# Altium schematic symbol library WS-DITV.SchLib: 44 symbols
Pins are listed as number, name and electrical type; pins without a type are passive.

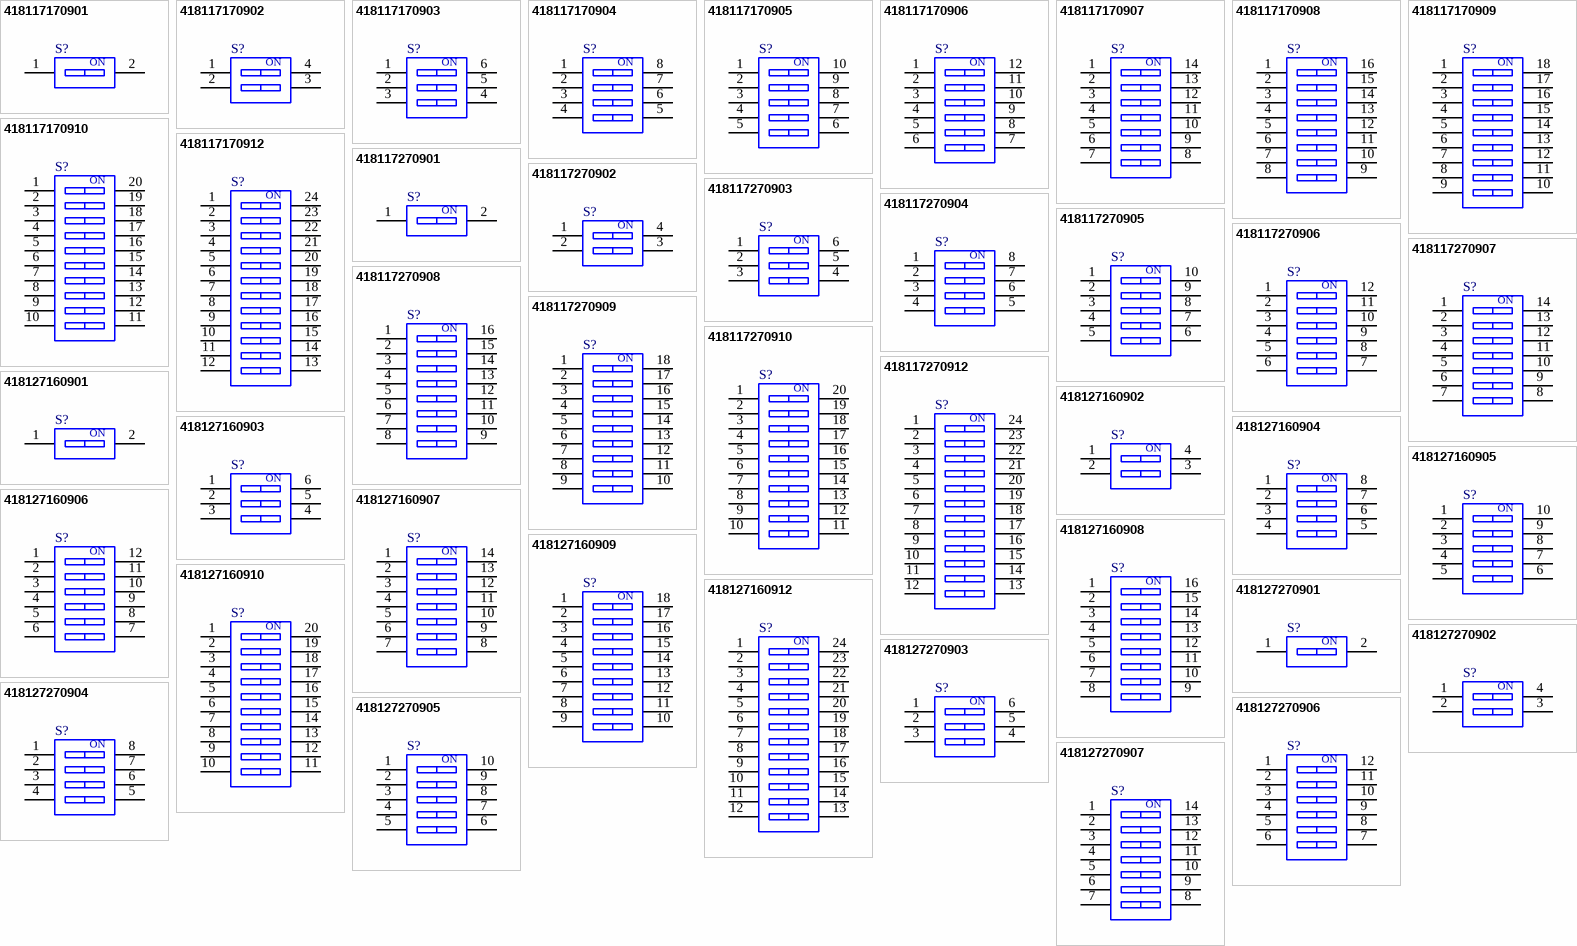
[diagram p0: symbols 418117170901 to 418127270907]

## 418117170901
designator S?
WS-DITV Compact THT Dip Switch, Flat Actuator, pitch 2.54mm, 1p; Part Number: 418117170901; Operation Force: 800g; Pole Number: 1; Actuator Type: Flat Type; Circuit: SPST-NO; Rated Current Switching: 25mA; Rated Current Non-Switching: 100mA; Rated Voltage Non-Switching: 50VDC; Rated Voltage Switching: 24VDC; ComponentLink1Description: Manufacturer; ComponentLink1URL: http://www.we-online.de; ComponentLink2Description: Datasheet; ComponentLink2URL: https://katalog.we-online.com/em/datasheet/418117170901.pdf; Pitch: 2.54mm; Contact Material: Copper Alloy; Mounting Technology: THT; Operating Temperature: -40 to +85degC; Contact Plating: Gold; Packaging: Tube; Publisher: Wurth Elektronik; Published Date: September 2019
footprint 418117170901
pins: 1, 2
text: ON

## 418117170902
designator S?
WS-DITV Compact THT Dip Switch, Flat Actuator, pitch 2.54mm, 2p; Part Number: 418117170902; Operation Force: 800g; Pole Number: 2; Actuator Type: Flat Type; Circuit: SPST-NO; Rated Current Switching: 25mA; Rated Current Non-Switching: 100mA; Rated Voltage Non-Switching: 50VDC; Rated Voltage Switching: 24VDC; ComponentLink1Description: Manufacturer; ComponentLink1URL: http://www.we-online.de; ComponentLink2Description: Datasheet; ComponentLink2URL: https://katalog.we-online.com/em/datasheet/418117170902.pdf; Pitch: 2.54mm; Contact Material: Copper Alloy; Mounting Technology: THT; Operating Temperature: -40 to +85degC; Contact Plating: Gold; Packaging: Tube; Publisher: Wurth Elektronik; Published Date: September 2019
footprint 418117170902
pins: 1, 2, 3, 4
text: ON

## 418117170903
designator S?
WS-DITV Compact THT Dip Switch, Flat Actuator, pitch 2.54mm, 3p; Part Number: 418117170903; Operation Force: 800g; Pole Number: 3; Actuator Type: Flat Type; Circuit: SPST-NO; Rated Current Switching: 25mA; Rated Current Non-Switching: 100mA; Rated Voltage Non-Switching: 50VDC; Rated Voltage Switching: 24VDC; ComponentLink1Description: Manufacturer; ComponentLink1URL: http://www.we-online.de; ComponentLink2Description: Datasheet; ComponentLink2URL: https://katalog.we-online.com/em/datasheet/418117170903.pdf; Pitch: 2.54mm; Contact Material: Copper Alloy; Mounting Technology: THT; Operating Temperature: -40 to +85degC; Contact Plating: Gold; Packaging: Tube; Publisher: Wurth Elektronik; Published Date: September 2019
footprint 418117170903
pins: 1, 2, 3, 4, 5, 6
text: ON

## 418117170904
designator S?
WS-DITV Compact THT Dip Switch, Flat Actuator, pitch 2.54mm, 4p; Part Number: 418117170904; Operation Force: 800g; Pole Number: 4; Actuator Type: Flat Type; Circuit: SPST-NO; Rated Current Switching: 25mA; Rated Current Non-Switching: 100mA; Rated Voltage Non-Switching: 50VDC; Rated Voltage Switching: 24VDC; ComponentLink1Description: Manufacturer; ComponentLink1URL: http://www.we-online.de; ComponentLink2Description: Datasheet; ComponentLink2URL: https://katalog.we-online.com/em/datasheet/418117170904.pdf; Pitch: 2.54mm; Contact Material: Copper Alloy; Mounting Technology: THT; Operating Temperature: -40 to +85degC; Contact Plating: Gold; Packaging: Tube; Publisher: Wurth Elektronik; Published Date: September 2019
footprint 418117170904
pins: 1, 2, 3, 4, 5, 6, 7, 8
text: ON

## 418117170905
designator S?
WS-DITV Compact THT Dip Switch, Flat Actuator, pitch 2.54mm, 5p; Part Number: 418117170905; Operation Force: 800g; Pole Number: 5; Actuator Type: Flat Type; Circuit: SPST-NO; Rated Current Switching: 25mA; Rated Current Non-Switching: 100mA; Rated Voltage Non-Switching: 50VDC; Rated Voltage Switching: 24VDC; ComponentLink1Description: Manufacturer; ComponentLink1URL: http://www.we-online.de; ComponentLink2Description: Datasheet; ComponentLink2URL: https://katalog.we-online.com/em/datasheet/418117170905.pdf; Pitch: 2.54mm; Contact Material: Copper Alloy; Mounting Technology: THT; Operating Temperature: -40 to +85degC; Contact Plating: Gold; Packaging: Tube; Publisher: Wurth Elektronik; Published Date: September 2019
footprint 418117170905
pins: 1, 2, 3, 4, 5, 6, 7, 8, 9, 10
text: ON

## 418117170906
designator S?
WS-DITV Compact THT Dip Switch, Flat Actuator, pitch 2.54mm, 6p; Part Number: 418117170906; Operation Force: 800g; Pole Number: 6; Actuator Type: Flat Type; Circuit: SPST-NO; Rated Current Switching: 25mA; Rated Current Non-Switching: 100mA; Rated Voltage Non-Switching: 50VDC; Rated Voltage Switching: 24VDC; ComponentLink1Description: Manufacturer; ComponentLink1URL: http://www.we-online.de; ComponentLink2Description: Datasheet; ComponentLink2URL: https://katalog.we-online.com/em/datasheet/418117170906.pdf; Pitch: 2.54mm; Contact Material: Copper Alloy; Mounting Technology: THT; Operating Temperature: -40 to +85degC; Contact Plating: Gold; Packaging: Tube; Publisher: Wurth Elektronik; Published Date: September 2019
footprint 418117170906
pins: 1, 2, 3, 4, 5, 6, 7, 8, 9, 10, 11, 12
text: ON

## 418117170907
designator S?
WS-DITV Compact THT Dip Switch, Flat Actuator, pitch 2.54mm, 7p; Part Number: 418117170907; Operation Force: 800g; Pole Number: 7; Actuator Type: Flat Type; Circuit: SPST-NO; Rated Current Switching: 25mA; Rated Current Non-Switching: 100mA; Rated Voltage Non-Switching: 50VDC; Rated Voltage Switching: 24VDC; ComponentLink1Description: Manufacturer; ComponentLink1URL: http://www.we-online.de; ComponentLink2Description: Datasheet; ComponentLink2URL: https://katalog.we-online.com/em/datasheet/418117170907.pdf; Pitch: 2.54mm; Contact Material: Copper Alloy; Mounting Technology: THT; Operating Temperature: -40 to +85degC; Contact Plating: Gold; Packaging: Tube; Publisher: Wurth Elektronik; Published Date: September 2019
footprint 418117170907
pins: 1, 2, 3, 4, 5, 6, 7, 8, 9, 10, 11, 12, 13, 14
text: ON

## 418117170908
designator S?
WS-DITV Compact THT Dip Switch, Flat Actuator, pitch 2.54mm, 8p; Part Number: 418117170908; Operation Force: 800g; Pole Number: 8; Actuator Type: Flat Type; Circuit: SPST-NO; Rated Current Switching: 25mA; Rated Current Non-Switching: 100mA; Rated Voltage Non-Switching: 50VDC; Rated Voltage Switching: 24VDC; ComponentLink1Description: Manufacturer; ComponentLink1URL: http://www.we-online.de; ComponentLink2Description: Datasheet; ComponentLink2URL: https://katalog.we-online.com/em/datasheet/418117170908.pdf; Pitch: 2.54mm; Contact Material: Copper Alloy; Mounting Technology: THT; Operating Temperature: -40 to +85degC; Contact Plating: Gold; Packaging: Tube; Publisher: Wurth Elektronik; Published Date: September 2019
footprint 418117170908
pins: 1, 2, 3, 4, 5, 6, 7, 8, 9, 10, 11, 12, 13, 14, 15, 16
text: ON

## 418117170909
designator S?
WS-DITV Compact THT Dip Switch, Flat Actuator, pitch 2.54mm, 9p; Part Number: 418117170909; Operation Force: 800g; Pole Number: 9; Actuator Type: Flat Type; Circuit: SPST-NO; Rated Current Switching: 25mA; Rated Current Non-Switching: 100mA; Rated Voltage Non-Switching: 50VDC; Rated Voltage Switching: 24VDC; ComponentLink1Description: Manufacturer; ComponentLink1URL: http://www.we-online.de; ComponentLink2Description: Datasheet; ComponentLink2URL: https://katalog.we-online.com/em/datasheet/418117170909.pdf; Pitch: 2.54mm; Contact Material: Copper Alloy; Mounting Technology: THT; Operating Temperature: -40 to +85degC; Contact Plating: Gold; Packaging: Tube; Publisher: Wurth Elektronik; Published Date: September 2019
footprint 418117170909
pins: 1, 2, 3, 4, 5, 6, 7, 8, 9, 10, 11, 12, 13, 14, 15, 16, 17, 18
text: ON

## 418117170910
designator S?
WS-DITV Compact THT Dip Switch, Flat Actuator, pitch 2.54mm, 10p; Part Number: 418117170910; Operation Force: 800g; Pole Number: 10; Actuator Type: Flat Type; Circuit: SPST-NO; Rated Current Switching: 25mA; Rated Current Non-Switching: 100mA; Rated Voltage Non-Switching: 50VDC; Rated Voltage Switching: 24VDC; ComponentLink1Description: Manufacturer; ComponentLink1URL: http://www.we-online.de; ComponentLink2Description: Datasheet; ComponentLink2URL: https://katalog.we-online.com/em/datasheet/418117170910.pdf; Pitch: 2.54mm; Contact Material: Copper Alloy; Mounting Technology: THT; Operating Temperature: -40 to +85degC; Contact Plating: Gold; Packaging: Tube; Publisher: Wurth Elektronik; Published Date: September 2019
footprint 418117170910
pins: 1, 2, 3, 4, 5, 6, 7, 8, 9, 10, 11, 12, 13, 14, 15, 16, 17, 18, 19, 20
text: ON

## 418117170912
designator S?
WS-DITV Compact THT Dip Switch, Flat Actuator, pitch 2.54mm, 12p; Part Number: 418117170912; Operation Force: 800g; Pole Number: 12; Actuator Type: Flat Type; Circuit: SPST-NO; Rated Current Switching: 25mA; Rated Current Non-Switching: 100mA; Rated Voltage Non-Switching: 50VDC; Rated Voltage Switching: 24VDC; ComponentLink1Description: Manufacturer; ComponentLink1URL: http://www.we-online.de; ComponentLink2Description: Datasheet; ComponentLink2URL: https://katalog.we-online.com/em/datasheet/418117170912.pdf; Pitch: 2.54mm; Contact Material: Copper Alloy; Mounting Technology: THT; Operating Temperature: -40 to +85degC; Contact Plating: Gold; Packaging: Tube; Publisher: Wurth Elektronik; Published Date: September 2019
footprint 418117170912
pins: 1, 2, 3, 4, 5, 6, 7, 8, 9, 10, 11, 12, 13, 14, 15, 16, 17, 18, 19, 20, 21, 22, 23, 24
text: ON

## 418117270901
designator S?
WS-DITV Compact THT Dip Switch, Raised Actuator, pitch 2.54mm, 1p; Part Number: 418117270901; Operation Force: 800g; Pole Number: 1; Actuator Type: Raise Type; Circuit: SPST-NO; Rated Current Switching: 25mA; Rated Current Non-Switching: 100mA; Rated Voltage Non-Switching: 50VDC; Rated Voltage Switching: 24VDC; ComponentLink1Description: Manufacturer; ComponentLink1URL: http://www.we-online.de; ComponentLink2Description: Datasheet; ComponentLink2URL: https://katalog.we-online.com/em/datasheet/418117270901.pdf; Pitch: 2.54mm; Contact Material: Copper Alloy; Mounting Technology: THT; Operating Temperature: -40 to +85degC; Contact Plating: Gold; Packaging: Tube; Publisher: Wurth Elektronik; Published Date: September 2019
footprint 418117270901
pins: 1, 2
text: ON

## 418117270902
designator S?
WS-DITV Compact THT Dip Switch, Raised Actuator, pitch 2.54mm, 2p; Part Number: 418117270902; Operation Force: 800g; Pole Number: 2; Actuator Type: Raise Type; Circuit: SPST-NO; Rated Current Switching: 25mA; Rated Current Non-Switching: 100mA; Rated Voltage Non-Switching: 50VDC; Rated Voltage Switching: 24VDC; ComponentLink1Description: Manufacturer; ComponentLink1URL: http://www.we-online.de; ComponentLink2Description: Datasheet; ComponentLink2URL: https://katalog.we-online.com/em/datasheet/418117270902.pdf; Pitch: 2.54mm; Contact Material: Copper Alloy; Mounting Technology: THT; Operating Temperature: -40 to +85degC; Contact Plating: Gold; Packaging: Tube; Publisher: Wurth Elektronik; Published Date: September 2019
footprint 418117270902
pins: 1, 2, 3, 4
text: ON

## 418117270903
designator S?
WS-DITV Compact THT Dip Switch, Raised Actuator, pitch 2.54mm, 3p; Part Number: 418117270903; Operation Force: 800g; Pole Number: 3; Actuator Type: Raise Type; Circuit: SPST-NO; Rated Current Switching: 25mA; Rated Current Non-Switching: 100mA; Rated Voltage Non-Switching: 50VDC; Rated Voltage Switching: 24VDC; ComponentLink1Description: Manufacturer; ComponentLink1URL: http://www.we-online.de; ComponentLink2Description: Datasheet; ComponentLink2URL: https://katalog.we-online.com/em/datasheet/418117270903.pdf; Pitch: 2.54mm; Contact Material: Copper Alloy; Mounting Technology: THT; Operating Temperature: -40 to +85degC; Contact Plating: Gold; Packaging: Tube; Publisher: Wurth Elektronik; Published Date: September 2019
footprint 418117270903
pins: 1, 2, 3, 4, 5, 6
text: ON

## 418117270904
designator S?
WS-DITV Compact THT Dip Switch, Raised Actuator, pitch 2.54mm, 4p; Part Number: 418117270904; Operation Force: 800g; Pole Number: 4; Actuator Type: Raise Type; Circuit: SPST-NO; Rated Current Switching: 25mA; Rated Current Non-Switching: 100mA; Rated Voltage Non-Switching: 50VDC; Rated Voltage Switching: 24VDC; ComponentLink1Description: Manufacturer; ComponentLink1URL: http://www.we-online.de; ComponentLink2Description: Datasheet; ComponentLink2URL: https://katalog.we-online.com/em/datasheet/418117270904.pdf; Pitch: 2.54mm; Contact Material: Copper Alloy; Mounting Technology: THT; Operating Temperature: -40 to +85degC; Contact Plating: Gold; Packaging: Tube; Publisher: Wurth Elektronik; Published Date: September 2019
footprint 418117270904
pins: 1, 2, 3, 4, 5, 6, 7, 8
text: ON

## 418117270905
designator S?
WS-DITV Compact THT Dip Switch, Raised Actuator, pitch 2.54mm, 5p; Part Number: 418117270905; Operation Force: 800g; Pole Number: 5; Actuator Type: Raise Type; Circuit: SPST-NO; Rated Current Switching: 25mA; Rated Current Non-Switching: 100mA; Rated Voltage Non-Switching: 50VDC; Rated Voltage Switching: 24VDC; ComponentLink1Description: Manufacturer; ComponentLink1URL: http://www.we-online.de; ComponentLink2Description: Datasheet; ComponentLink2URL: https://katalog.we-online.com/em/datasheet/418117270905.pdf; Pitch: 2.54mm; Contact Material: Copper Alloy; Mounting Technology: THT; Operating Temperature: -40 to +85degC; Contact Plating: Gold; Packaging: Tube; Publisher: Wurth Elektronik; Published Date: September 2019
footprint 418117270905
pins: 1, 2, 3, 4, 5, 6, 7, 8, 9, 10
text: ON

## 418117270906
designator S?
WS-DITV Compact THT Dip Switch, Raised Actuator, pitch 2.54mm, 6p; Part Number: 418117270906; Operation Force: 800g; Pole Number: 6; Actuator Type: Raise Type; Circuit: SPST-NO; Rated Current Switching: 25mA; Rated Current Non-Switching: 100mA; Rated Voltage Non-Switching: 50VDC; Rated Voltage Switching: 24VDC; ComponentLink1Description: Manufacturer; ComponentLink1URL: http://www.we-online.de; ComponentLink2Description: Datasheet; ComponentLink2URL: https://katalog.we-online.com/em/datasheet/418117270906.pdf; Pitch: 2.54mm; Contact Material: Copper Alloy; Mounting Technology: THT; Operating Temperature: -40 to +85degC; Contact Plating: Gold; Packaging: Tube; Publisher: Wurth Elektronik; Published Date: September 2019
footprint 418117270906
pins: 1, 2, 3, 4, 5, 6, 7, 8, 9, 10, 11, 12
text: ON

## 418117270907
designator S?
WS-DITV Compact THT Dip Switch, Raised Actuator, pitch 2.54mm, 7p; Part Number: 418117270907; Operation Force: 800g; Pole Number: 7; Actuator Type: Raise Type; Circuit: SPST-NO; Rated Current Switching: 25mA; Rated Current Non-Switching: 100mA; Rated Voltage Non-Switching: 50VDC; Rated Voltage Switching: 24VDC; ComponentLink1Description: Manufacturer; ComponentLink1URL: http://www.we-online.de; ComponentLink2Description: Datasheet; ComponentLink2URL: https://katalog.we-online.com/em/datasheet/418117270907.pdf; Pitch: 2.54mm; Contact Material: Copper Alloy; Mounting Technology: THT; Operating Temperature: -40 to +85degC; Contact Plating: Gold; Packaging: Tube; Publisher: Wurth Elektronik; Published Date: September 2019
footprint 418117270907
pins: 1, 2, 3, 4, 5, 6, 7, 8, 9, 10, 11, 12, 13, 14
text: ON

## 418117270908
designator S?
WS-DITV Compact THT Dip Switch, Raised Actuator, pitch 2.54mm, 8p; Part Number: 418117270908; Operation Force: 800g; Pole Number: 8; Actuator Type: Raise Type; Circuit: SPST-NO; Rated Current Switching: 25mA; Rated Current Non-Switching: 100mA; Rated Voltage Non-Switching: 50VDC; Rated Voltage Switching: 24VDC; ComponentLink1Description: Manufacturer; ComponentLink1URL: http://www.we-online.de; ComponentLink2Description: Datasheet; ComponentLink2URL: https://katalog.we-online.com/em/datasheet/418117270908.pdf; Pitch: 2.54mm; Contact Material: Copper Alloy; Mounting Technology: THT; Operating Temperature: -40 to +85degC; Contact Plating: Gold; Packaging: Tube; Publisher: Wurth Elektronik; Published Date: September 2019
footprint 418117270908
pins: 1, 2, 3, 4, 5, 6, 7, 8, 9, 10, 11, 12, 13, 14, 15, 16
text: ON

## 418117270909
designator S?
WS-DITV Compact THT Dip Switch, Raised Actuator, pitch 2.54mm, 9p; Part Number: 418117270909; Operation Force: 800g; Pole Number: 9; Actuator Type: Raise Type; Circuit: SPST-NO; Rated Current Switching: 25mA; Rated Current Non-Switching: 100mA; Rated Voltage Non-Switching: 50VDC; Rated Voltage Switching: 24VDC; ComponentLink1Description: Manufacturer; ComponentLink1URL: http://www.we-online.de; ComponentLink2Description: Datasheet; ComponentLink2URL: https://katalog.we-online.com/em/datasheet/418117270909.pdf; Pitch: 2.54mm; Contact Material: Copper Alloy; Mounting Technology: THT; Operating Temperature: -40 to +85degC; Contact Plating: Gold; Packaging: Tube; Publisher: Wurth Elektronik; Published Date: September 2019
footprint 418117270909
pins: 1, 2, 3, 4, 5, 6, 7, 8, 9, 10, 11, 12, 13, 14, 15, 16, 17, 18
text: ON

## 418117270910
designator S?
WS-DITV Compact THT Dip Switch, Raised Actuator, pitch 2.54mm, 10p; Part Number: 418117270910; Operation Force: 800g; Pole Number: 10; Actuator Type: Raise Type; Circuit: SPST-NO; Rated Current Switching: 25mA; Rated Current Non-Switching: 100mA; Rated Voltage Non-Switching: 50VDC; Rated Voltage Switching: 24VDC; ComponentLink1Description: Manufacturer; ComponentLink1URL: http://www.we-online.de; ComponentLink2Description: Datasheet; ComponentLink2URL: https://katalog.we-online.com/em/datasheet/418117270910.pdf; Pitch: 2.54mm; Contact Material: Copper Alloy; Mounting Technology: THT; Operating Temperature: -40 to +85degC; Contact Plating: Gold; Packaging: Tube; Publisher: Wurth Elektronik; Published Date: September 2019
footprint 418117270910
pins: 1, 2, 3, 4, 5, 6, 7, 8, 9, 10, 11, 12, 13, 14, 15, 16, 17, 18, 19, 20
text: ON

## 418117270912
designator S?
WS-DITV Compact THT Dip Switch, Raised Actuator, pitch 2.54mm, 12p; Part Number: 418117270912; Operation Force: 800g; Pole Number: 12; Actuator Type: Raise Type; Circuit: SPST-NO; Rated Current Switching: 25mA; Rated Current Non-Switching: 100mA; Rated Voltage Non-Switching: 50VDC; Rated Voltage Switching: 24VDC; ComponentLink1Description: Manufacturer; ComponentLink1URL: http://www.we-online.de; ComponentLink2Description: Datasheet; ComponentLink2URL: https://katalog.we-online.com/em/datasheet/418117270912.pdf; Pitch: 2.54mm; Contact Material: Copper Alloy; Mounting Technology: THT; Operating Temperature: -40 to +85degC; Contact Plating: Gold; Packaging: Tube; Publisher: Wurth Elektronik; Published Date: September 2019
footprint 418117270912
pins: 1, 2, 3, 4, 5, 6, 7, 8, 9, 10, 11, 12, 13, 14, 15, 16, 17, 18, 19, 20, 21, 22, 23, 24
text: ON

## 418127160901
designator S?
WS-DITV Small Compact THT Dip Switch, Flat Actuator with Top Tape, pitch 2.54mm, 1p; Part Number: 418127160901; Operation Force: 600g; Pole Number: 1; Actuator Type: Flat Type; Circuit: SPST-NO; Rated Current Switching: 25mA; Rated Current Non-Switching: 100mA; Rated Voltage Non-Switching: 50VDC; Rated Voltage Switching: 24VDC; ComponentLink1Description: Manufacturer; ComponentLink1URL: http://www.we-online.de; ComponentLink2Description: Datasheet; ComponentLink2URL: https://katalog.we-online.com/em/datasheet/418127160901.pdf; Pitch: 2.54mm; Contact Material: Copper Alloy; Mounting Technology: THT; Operating Temperature: -40 to +85degC; Contact Plating: Gold; Packaging: Tube; Publisher: Wurth Elektronik; Published Date: September 2019
footprint 418127160901
pins: 1, 2
text: ON

## 418127160902
designator S?
WS-DITV Small Compact THT Dip Switch, Flat Actuator with Top Tape, pitch 2.54mm, 2p; Part Number: 418127160902; Operation Force: 600g; Pole Number: 2; Actuator Type: Flat Type; Circuit: SPST-NO; Rated Current Switching: 25mA; Rated Current Non-Switching: 100mA; Rated Voltage Non-Switching: 50VDC; Rated Voltage Switching: 24VDC; ComponentLink1Description: Manufacturer; ComponentLink1URL: http://www.we-online.de; ComponentLink2Description: Datasheet; ComponentLink2URL: https://katalog.we-online.com/em/datasheet/418127160902.pdf; Pitch: 2.54mm; Contact Material: Copper Alloy; Mounting Technology: THT; Operating Temperature: -40 to +85degC; Contact Plating: Gold; Packaging: Tube; Publisher: Wurth Elektronik; Published Date: September 2019
footprint 418127160902
pins: 1, 2, 3, 4
text: ON

## 418127160903
designator S?
WS-DITV Small Compact THT Dip Switch, Flat Actuator with Top Tape, pitch 2.54mm, 3p; Part Number: 418127160903; Operation Force: 600g; Pole Number: 3; Actuator Type: Flat Type; Circuit: SPST-NO; Rated Current Switching: 25mA; Rated Current Non-Switching: 100mA; Rated Voltage Non-Switching: 50VDC; Rated Voltage Switching: 24VDC; ComponentLink1Description: Manufacturer; ComponentLink1URL: http://www.we-online.de; ComponentLink2Description: Datasheet; ComponentLink2URL: https://katalog.we-online.com/em/datasheet/418127160903.pdf; Pitch: 2.54mm; Contact Material: Copper Alloy; Mounting Technology: THT; Operating Temperature: -40 to +85degC; Contact Plating: Gold; Packaging: Tube; Publisher: Wurth Elektronik; Published Date: September 2019
footprint 418127160903
pins: 1, 2, 3, 4, 5, 6
text: ON

## 418127160904
designator S?
WS-DITV Small Compact THT Dip Switch, Flat Actuator with Top Tape, pitch 2.54mm, 4p; Part Number: 418127160904; Operation Force: 600g; Pole Number: 4; Actuator Type: Flat Type; Circuit: SPST-NO; Rated Current Switching: 25mA; Rated Current Non-Switching: 100mA; Rated Voltage Non-Switching: 50VDC; Rated Voltage Switching: 24VDC; ComponentLink1Description: Manufacturer; ComponentLink1URL: http://www.we-online.de; ComponentLink2Description: Datasheet; ComponentLink2URL: https://katalog.we-online.com/em/datasheet/418127160904.pdf; Pitch: 2.54mm; Contact Material: Copper Alloy; Mounting Technology: THT; Operating Temperature: -40 to +85degC; Contact Plating: Gold; Packaging: Tube; Publisher: Wurth Elektronik; Published Date: September 2019
footprint 418127160904
pins: 1, 2, 3, 4, 5, 6, 7, 8
text: ON

## 418127160905
designator S?
WS-DITV Small Compact THT Dip Switch, Flat Actuator with Top Tape, pitch 2.54mm, 5p; Part Number: 418127160905; Operation Force: 600g; Pole Number: 5; Actuator Type: Flat Type; Circuit: SPST-NO; Rated Current Switching: 25mA; Rated Current Non-Switching: 100mA; Rated Voltage Non-Switching: 50VDC; Rated Voltage Switching: 24VDC; ComponentLink1Description: Manufacturer; ComponentLink1URL: http://www.we-online.de; ComponentLink2Description: Datasheet; ComponentLink2URL: https://katalog.we-online.com/em/datasheet/418127160905.pdf; Pitch: 2.54mm; Contact Material: Copper Alloy; Mounting Technology: THT; Operating Temperature: -40 to +85degC; Contact Plating: Gold; Packaging: Tube; Publisher: Wurth Elektronik; Published Date: September 2019
footprint 418127160905
pins: 1, 2, 3, 4, 5, 6, 7, 8, 9, 10
text: ON

## 418127160906
designator S?
WS-DITV Small Compact THT Dip Switch, Flat Actuator with Top Tape, pitch 2.54mm, 6p; Part Number: 418127160906; Operation Force: 600g; Pole Number: 6; Actuator Type: Flat Type; Circuit: SPST-NO; Rated Current Switching: 25mA; Rated Current Non-Switching: 100mA; Rated Voltage Non-Switching: 50VDC; Rated Voltage Switching: 24VDC; ComponentLink1Description: Manufacturer; ComponentLink1URL: http://www.we-online.de; ComponentLink2Description: Datasheet; ComponentLink2URL: https://katalog.we-online.com/em/datasheet/418127160906.pdf; Pitch: 2.54mm; Contact Material: Copper Alloy; Mounting Technology: THT; Operating Temperature: -40 to +85degC; Contact Plating: Gold; Packaging: Tube; Publisher: Wurth Elektronik; Published Date: September 2019
footprint 418127160906
pins: 1, 2, 3, 4, 5, 6, 7, 8, 9, 10, 11, 12
text: ON

## 418127160907
designator S?
WS-DITV Small Compact THT Dip Switch, Flat Actuator with Top Tape, pitch 2.54mm, 7p; Part Number: 418127160907; Operation Force: 600g; Pole Number: 7; Actuator Type: Flat Type; Circuit: SPST-NO; Rated Current Switching: 25mA; Rated Current Non-Switching: 100mA; Rated Voltage Non-Switching: 50VDC; Rated Voltage Switching: 24VDC; ComponentLink1Description: Manufacturer; ComponentLink1URL: http://www.we-online.de; ComponentLink2Description: Datasheet; ComponentLink2URL: https://katalog.we-online.com/em/datasheet/418127160907.pdf; Pitch: 2.54mm; Contact Material: Copper Alloy; Mounting Technology: THT; Operating Temperature: -40 to +85degC; Contact Plating: Gold; Packaging: Tube; Publisher: Wurth Elektronik; Published Date: September 2019
footprint 418127160907
pins: 1, 2, 3, 4, 5, 6, 7, 8, 9, 10, 11, 12, 13, 14
text: ON

## 418127160908
designator S?
WS-DITV Small Compact THT Dip Switch, Flat Actuator with Top Tape, pitch 2.54mm, 8p; Part Number: 418127160908; Operation Force: 600g; Pole Number: 8; Actuator Type: Flat Type; Circuit: SPST-NO; Rated Current Switching: 25mA; Rated Current Non-Switching: 100mA; Rated Voltage Non-Switching: 50VDC; Rated Voltage Switching: 24VDC; ComponentLink1Description: Manufacturer; ComponentLink1URL: http://www.we-online.de; ComponentLink2Description: Datasheet; ComponentLink2URL: https://katalog.we-online.com/em/datasheet/418127160908.pdf; Pitch: 2.54mm; Contact Material: Copper Alloy; Mounting Technology: THT; Operating Temperature: -40 to +85degC; Contact Plating: Gold; Packaging: Tube; Publisher: Wurth Elektronik; Published Date: September 2019
footprint 418127160908
pins: 1, 2, 3, 4, 5, 6, 7, 8, 9, 10, 11, 12, 13, 14, 15, 16
text: ON

## 418127160909
designator S?
WS-DITV Small Compact THT Dip Switch, Flat Actuator with Top Tape, pitch 2.54mm, 9p; Part Number: 418127160909; Operation Force: 600g; Pole Number: 9; Actuator Type: Flat Type; Circuit: SPST-NO; Rated Current Switching: 25mA; Rated Current Non-Switching: 100mA; Rated Voltage Non-Switching: 50VDC; Rated Voltage Switching: 24VDC; ComponentLink1Description: Manufacturer; ComponentLink1URL: http://www.we-online.de; ComponentLink2Description: Datasheet; ComponentLink2URL: https://katalog.we-online.com/em/datasheet/418127160909.pdf; Pitch: 2.54mm; Contact Material: Copper Alloy; Mounting Technology: THT; Operating Temperature: -40 to +85degC; Contact Plating: Gold; Packaging: Tube; Publisher: Wurth Elektronik; Published Date: September 2019
footprint 418127160909
pins: 1, 2, 3, 4, 5, 6, 7, 8, 9, 10, 11, 12, 13, 14, 15, 16, 17, 18
text: ON

## 418127160910
designator S?
WS-DITV Small Compact THT Dip Switch, Flat Actuator with Top Tape, pitch 2.54mm, 10p; Part Number: 418127160910; Operation Force: 600g; Pole Number: 10; Actuator Type: Flat Type; Circuit: SPST-NO; Rated Current Switching: 25mA; Rated Current Non-Switching: 100mA; Rated Voltage Non-Switching: 50VDC; Rated Voltage Switching: 24VDC; ComponentLink1Description: Manufacturer; ComponentLink1URL: http://www.we-online.de; ComponentLink2Description: Datasheet; ComponentLink2URL: https://katalog.we-online.com/em/datasheet/418127160910.pdf; Pitch: 2.54mm; Contact Material: Copper Alloy; Mounting Technology: THT; Operating Temperature: -40 to +85degC; Contact Plating: Gold; Packaging: Tube; Publisher: Wurth Elektronik; Published Date: September 2019
footprint 418127160910
pins: 1, 2, 3, 4, 5, 6, 7, 8, 9, 10, 11, 12, 13, 14, 15, 16, 17, 18, 19, 20
text: ON

## 418127160912
designator S?
WS-DITV Small Compact THT Dip Switch, Flat Actuator with Top Tape, pitch 2.54mm, 12p; Part Number: 418127160912; Operation Force: 600g; Pole Number: 12; Actuator Type: Flat Type; Circuit: SPST-NO; Rated Current Switching: 25mA; Rated Current Non-Switching: 100mA; Rated Voltage Non-Switching: 50VDC; Rated Voltage Switching: 24VDC; ComponentLink1Description: Manufacturer; ComponentLink1URL: http://www.we-online.de; ComponentLink2Description: Datasheet; ComponentLink2URL: https://katalog.we-online.com/em/datasheet/418127160912.pdf; Pitch: 2.54mm; Contact Material: Copper Alloy; Mounting Technology: THT; Operating Temperature: -40 to +85degC; Contact Plating: Gold; Packaging: Tube; Publisher: Wurth Elektronik; Published Date: September 2019
footprint 418127160912
pins: 1, 2, 3, 4, 5, 6, 7, 8, 9, 10, 11, 12, 13, 14, 15, 16, 17, 18, 19, 20, 21, 22, 23, 24
text: ON

## 418127270901
designator S?
WS-DITV Small Compact THT Dip Switch, Raised Actuator, pitch 2.54mm, 1p; Part Number: 418127270901; Operation Force: 600g; Pole Number: 1; Actuator Type: Raise Type; Circuit: SPST-NO; Rated Current Switching: 25mA; Rated Current Non-Switching: 100mA; Rated Voltage Non-Switching: 50VDC; Rated Voltage Switching: 24VDC; ComponentLink1Description: Manufacturer; ComponentLink1URL: http://www.we-online.de; ComponentLink2Description: Datasheet; ComponentLink2URL: https://katalog.we-online.com/em/datasheet/418127270901.pdf; Pitch: 2.54mm; Contact Material: Copper Alloy; Mounting Technology: THT; Operating Temperature: -40 to +85degC; Contact Plating: Gold; Packaging: Tube; Publisher: Wurth Elektronik; Published Date: September 2019
footprint 418127270901
pins: 1, 2
text: ON

## 418127270902
designator S?
WS-DITV Small Compact THT Dip Switch, Raised Actuator, pitch 2.54mm, 2p; Part Number: 418127270902; Operation Force: 600g; Pole Number: 2; Actuator Type: Raise Type; Circuit: SPST-NO; Rated Current Switching: 25mA; Rated Current Non-Switching: 100mA; Rated Voltage Non-Switching: 50VDC; Rated Voltage Switching: 24VDC; ComponentLink1Description: Manufacturer; ComponentLink1URL: http://www.we-online.de; ComponentLink2Description: Datasheet; ComponentLink2URL: https://katalog.we-online.com/em/datasheet/418127270902.pdf; Pitch: 2.54mm; Contact Material: Copper Alloy; Mounting Technology: THT; Operating Temperature: -40 to +85degC; Contact Plating: Gold; Packaging: Tube; Publisher: Wurth Elektronik; Published Date: September 2019
footprint 418127270902
pins: 1, 2, 3, 4
text: ON

## 418127270903
designator S?
WS-DITV Small Compact THT Dip Switch, Raised Actuator, pitch 2.54mm, 3p; Part Number: 418127270903; Operation Force: 600g; Pole Number: 3; Actuator Type: Raise Type; Circuit: SPST-NO; Rated Current Switching: 25mA; Rated Current Non-Switching: 100mA; Rated Voltage Non-Switching: 50VDC; Rated Voltage Switching: 24VDC; ComponentLink1Description: Manufacturer; ComponentLink1URL: http://www.we-online.de; ComponentLink2Description: Datasheet; ComponentLink2URL: https://katalog.we-online.com/em/datasheet/418127270903.pdf; Pitch: 2.54mm; Contact Material: Copper Alloy; Mounting Technology: THT; Operating Temperature: -40 to +85degC; Contact Plating: Gold; Packaging: Tube; Publisher: Wurth Elektronik; Published Date: September 2019
footprint 418127270903
pins: 1, 2, 3, 4, 5, 6
text: ON

## 418127270904
designator S?
WS-DITV Small Compact THT Dip Switch, Raised Actuator, pitch 2.54mm, 4p; Part Number: 418127270904; Operation Force: 600g; Pole Number: 4; Actuator Type: Raise Type; Circuit: SPST-NO; Rated Current Switching: 25mA; Rated Current Non-Switching: 100mA; Rated Voltage Non-Switching: 50VDC; Rated Voltage Switching: 24VDC; ComponentLink1Description: Manufacturer; ComponentLink1URL: http://www.we-online.de; ComponentLink2Description: Datasheet; ComponentLink2URL: https://katalog.we-online.com/em/datasheet/418127270904.pdf; Pitch: 2.54mm; Contact Material: Copper Alloy; Mounting Technology: THT; Operating Temperature: -40 to +85degC; Contact Plating: Gold; Packaging: Tube; Publisher: Wurth Elektronik; Published Date: September 2019
footprint 418127270904
pins: 1, 2, 3, 4, 5, 6, 7, 8
text: ON

## 418127270905
designator S?
WS-DITV Small Compact THT Dip Switch, Raised Actuator, pitch 2.54mm, 5p; Part Number: 418127270905; Operation Force: 600g; Pole Number: 5; Actuator Type: Raise Type; Circuit: SPST-NO; Rated Current Switching: 25mA; Rated Current Non-Switching: 100mA; Rated Voltage Non-Switching: 50VDC; Rated Voltage Switching: 24VDC; ComponentLink1Description: Manufacturer; ComponentLink1URL: http://www.we-online.de; ComponentLink2Description: Datasheet; ComponentLink2URL: https://katalog.we-online.com/em/datasheet/418127270905.pdf; Pitch: 2.54mm; Contact Material: Copper Alloy; Mounting Technology: THT; Operating Temperature: -40 to +85degC; Contact Plating: Gold; Packaging: Tube; Publisher: Wurth Elektronik; Published Date: September 2019
footprint 418127270905
pins: 1, 2, 3, 4, 5, 6, 7, 8, 9, 10
text: ON

## 418127270906
designator S?
WS-DITV Small Compact THT Dip Switch, Raised Actuator, pitch 2.54mm, 6p; Part Number: 418127270906; Operation Force: 600g; Pole Number: 6; Actuator Type: Raise Type; Circuit: SPST-NO; Rated Current Switching: 25mA; Rated Current Non-Switching: 100mA; Rated Voltage Non-Switching: 50VDC; Rated Voltage Switching: 24VDC; ComponentLink1Description: Manufacturer; ComponentLink1URL: http://www.we-online.de; ComponentLink2Description: Datasheet; ComponentLink2URL: https://katalog.we-online.com/em/datasheet/418127270906.pdf; Pitch: 2.54mm; Contact Material: Copper Alloy; Mounting Technology: THT; Operating Temperature: -40 to +85degC; Contact Plating: Gold; Packaging: Tube; Publisher: Wurth Elektronik; Published Date: September 2019
footprint 418127270906
pins: 1, 2, 3, 4, 5, 6, 7, 8, 9, 10, 11, 12
text: ON

## 418127270907
designator S?
WS-DITV Small Compact THT Dip Switch, Raised Actuator, pitch 2.54mm, 7p; Part Number: 418127270907; Operation Force: 600g; Pole Number: 7; Actuator Type: Raise Type; Circuit: SPST-NO; Rated Current Switching: 25mA; Rated Current Non-Switching: 100mA; Rated Voltage Non-Switching: 50VDC; Rated Voltage Switching: 24VDC; ComponentLink1Description: Manufacturer; ComponentLink1URL: http://www.we-online.de; ComponentLink2Description: Datasheet; ComponentLink2URL: https://katalog.we-online.com/em/datasheet/418127270907.pdf; Pitch: 2.54mm; Contact Material: Copper Alloy; Mounting Technology: THT; Operating Temperature: -40 to +85degC; Contact Plating: Gold; Packaging: Tube; Publisher: Wurth Elektronik; Published Date: September 2019
footprint 418127270907
pins: 1, 2, 3, 4, 5, 6, 7, 8, 9, 10, 11, 12, 13, 14
text: ON

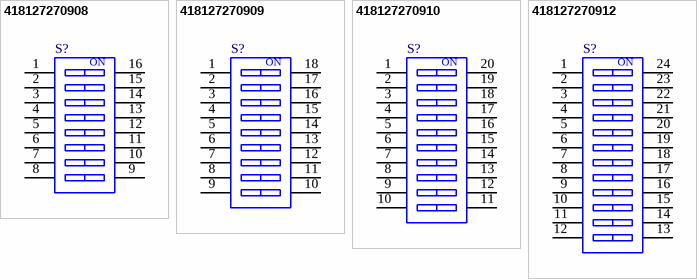
[diagram p1: symbols 418127270908 to 418127270912]

## 418127270908
designator S?
WS-DITV Small Compact THT Dip Switch, Raised Actuator, pitch 2.54mm, 8p; Part Number: 418127270908; Operation Force: 600g; Pole Number: 8; Actuator Type: Raise Type; Circuit: SPST-NO; Rated Current Switching: 25mA; Rated Current Non-Switching: 100mA; Rated Voltage Non-Switching: 50VDC; Rated Voltage Switching: 24VDC; ComponentLink1Description: Manufacturer; ComponentLink1URL: http://www.we-online.de; ComponentLink2Description: Datasheet; ComponentLink2URL: https://katalog.we-online.com/em/datasheet/418127270908.pdf; Pitch: 2.54mm; Contact Material: Copper Alloy; Mounting Technology: THT; Operating Temperature: -40 to +85degC; Contact Plating: Gold; Packaging: Tube; Publisher: Wurth Elektronik; Published Date: September 2019
footprint 418127270908
pins: 1, 2, 3, 4, 5, 6, 7, 8, 9, 10, 11, 12, 13, 14, 15, 16
text: ON

## 418127270909
designator S?
WS-DITV Small Compact THT Dip Switch, Raised Actuator, pitch 2.54mm, 9p; Part Number: 418127270909; Operation Force: 600g; Pole Number: 9; Actuator Type: Raise Type; Circuit: SPST-NO; Rated Current Switching: 25mA; Rated Current Non-Switching: 100mA; Rated Voltage Non-Switching: 50VDC; Rated Voltage Switching: 24VDC; ComponentLink1Description: Manufacturer; ComponentLink1URL: http://www.we-online.de; ComponentLink2Description: Datasheet; ComponentLink2URL: https://katalog.we-online.com/em/datasheet/418127270909.pdf; Pitch: 2.54mm; Contact Material: Copper Alloy; Mounting Technology: THT; Operating Temperature: -40 to +85degC; Contact Plating: Gold; Packaging: Tube; Publisher: Wurth Elektronik; Published Date: September 2019
footprint 418127270909
pins: 1, 2, 3, 4, 5, 6, 7, 8, 9, 10, 11, 12, 13, 14, 15, 16, 17, 18
text: ON

## 418127270910
designator S?
WS-DITV Small Compact THT Dip Switch, Raised Actuator, pitch 2.54mm, 10p; Part Number: 418127270910; Operation Force: 600g; Pole Number: 10; Actuator Type: Raise Type; Circuit: SPST-NO; Rated Current Switching: 25mA; Rated Current Non-Switching: 100mA; Rated Voltage Non-Switching: 50VDC; Rated Voltage Switching: 24VDC; ComponentLink1Description: Manufacturer; ComponentLink1URL: http://www.we-online.de; ComponentLink2Description: Datasheet; ComponentLink2URL: https://katalog.we-online.com/em/datasheet/418127270910.pdf; Pitch: 2.54mm; Contact Material: Copper Alloy; Mounting Technology: THT; Operating Temperature: -40 to +85degC; Contact Plating: Gold; Packaging: Tube; Publisher: Wurth Elektronik; Published Date: September 2019
footprint 418127270910
pins: 1, 2, 3, 4, 5, 6, 7, 8, 9, 10, 11, 12, 13, 14, 15, 16, 17, 18, 19, 20
text: ON

## 418127270912
designator S?
WS-DITV Small Compact THT Dip Switch, Raised Actuator, pitch 2.54mm, 12p; Part Number: 418127270912; Operation Force: 600g; Pole Number: 12; Actuator Type: Raise Type; Circuit: SPST-NO; Rated Current Switching: 25mA; Rated Current Non-Switching: 100mA; Rated Voltage Non-Switching: 50VDC; Rated Voltage Switching: 24VDC; ComponentLink1Description: Manufacturer; ComponentLink1URL: http://www.we-online.de; ComponentLink2Description: Datasheet; ComponentLink2URL: https://katalog.we-online.com/em/datasheet/418127270912.pdf; Pitch: 2.54mm; Contact Material: Copper Alloy; Mounting Technology: THT; Operating Temperature: -40 to +85degC; Contact Plating: Gold; Packaging: Tube; Publisher: Wurth Elektronik; Published Date: September 2019
footprint 418127270912
pins: 1, 2, 3, 4, 5, 6, 7, 8, 9, 10, 11, 12, 13, 14, 15, 16, 17, 18, 19, 20, 21, 22, 23, 24
text: ON